# Altium schematic symbol library 32Mhz_XTAL_ECS-320-8-36CKM-TR3.SchLib: 1 symbol
Pins are listed as number, name and electrical type; pins without a type are passive.

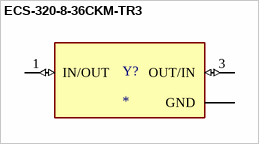
[diagram p0: symbol ECS-320-8-36CKM-TR3]

## ECS-320-8-36CKM-TR3
designator Y?
Crystal 32MHz Â±10ppm (Tol) Â±10ppm (Stability) 8pF FUND 50Ohm 4-Pin Mini-SMD T/R; MF: ECS Inc.; MP: ECS-320-8-36CKM-TR3; SnapEDA_Link: https://www.snapeda.com/parts/ECS-320-8-36CKM-TR3/ECS+Inc./view-part/?ref=snap; Purchase-URL: https://pricing.snapeda.com/search/part/ECS-320-8-36CKM-TR3/?ref=eda; Check_prices: https://www.snapeda.com/parts/ECS-320-8-36CKM-TR3/ECS+Inc./view-part/?ref=eda; Value: *; Digi-Key_Part_Number: 50-ECS-320-8-36CKM-TR3TR-ND; Package: None
footprint XTAL_ECS-163.84-10-36-JGN-TR
pins: 1 IN/OUT (io), 2 GND (power), 3 OUT/IN (io), 4 GND (power)